# Altium footprint library SLW12775453ARAND.PcbLib: 1 footprints
Each footprint in its own frame and in the unit in brackets; x right, y up, seen from the top. Pads: shape width x height; smd on the part's side, far side on the other; paste and mask are expansions set on the pad; w line width, h text height; cw(c..) or ccw(c..) is an arc to the next point about the centre after c.
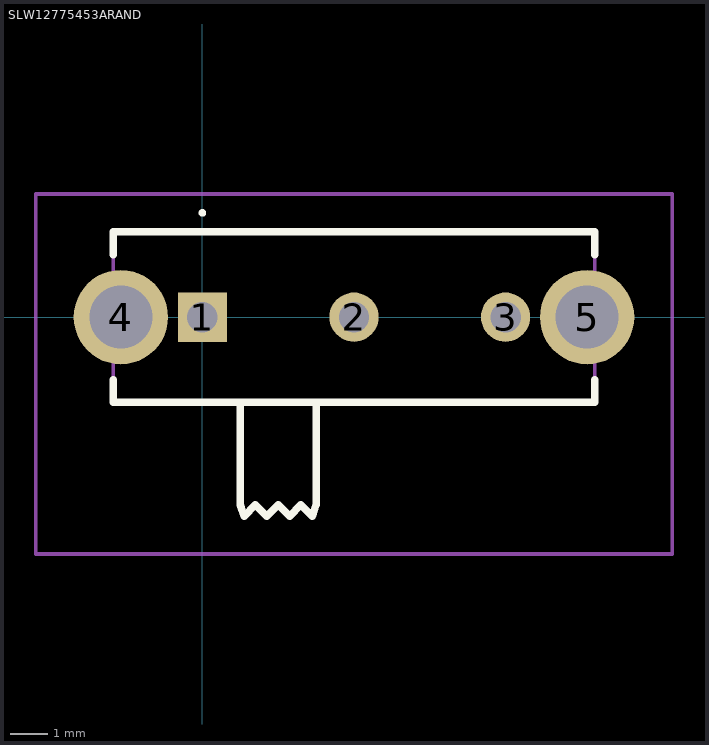
[diagram p0: the footprint, top view; thin cyan lines are the x and y axes]

## SLW12775453ARAND [mm]
pads (5):
  rect 1.3x1.3 hole 0.8: 1(0,0)
  round 1.3 hole 0.8: 2(4,0) 3(8,0)
  round 2.49 hole 1.66: 4(-2.15,0) 5(10.15,0)
Top Overlay:
  lines w0.1: 0,2.7 cw(c0,2.75) 0,2.8 ; 0,2.7 0,2.7 ; 0,2.7 ccw(c0,2.75) 0,2.8 ; 0,2.8 0,2.8
  lines w0.2: -2.35,-1.65 -2.35,-2.25 10.35,-2.25 10.35,-1.65 ; -2.35,1.65 -2.35,2.25 10.35,2.25 10.35,1.65 ; 1,-2.25 1,-4.95 1.1,-5.25 1.4,-4.95 1.7,-5.25 2,-4.95 2.3,-5.25 2.6,-4.95 2.9,-5.25 3,-4.95 3,-2.25
Mechanical 15:
  lines w0.1: 1,-2.25 1,-4.95 1.1,-5.25 1.4,-4.95 1.7,-5.25 2,-4.95 2.3,-5.25 2.6,-4.95 2.9,-5.25 3,-4.95 3,-2.25 ; -2.35,-2.25 10.35,-2.25 10.35,2.25 -2.35,2.25 -2.35,-2.25
Mechanical 20:
  lines w0.1: -4.395,-6.25 12.395,-6.25 12.395,3.25 -4.395,3.25 -4.395,-6.25